# Altium footprint library SecurityLibrary.PcbLib: 34 footprints (part 2 of 3)
Each footprint in its own frame and in the unit in brackets; x right, y up, seen from the top. Pads: shape width x height; smd on the part's side, far side on the other; paste and mask are expansions set on the pad; w line width, h text height; cw(c..) or ccw(c..) is an arc to the next point about the centre after c.
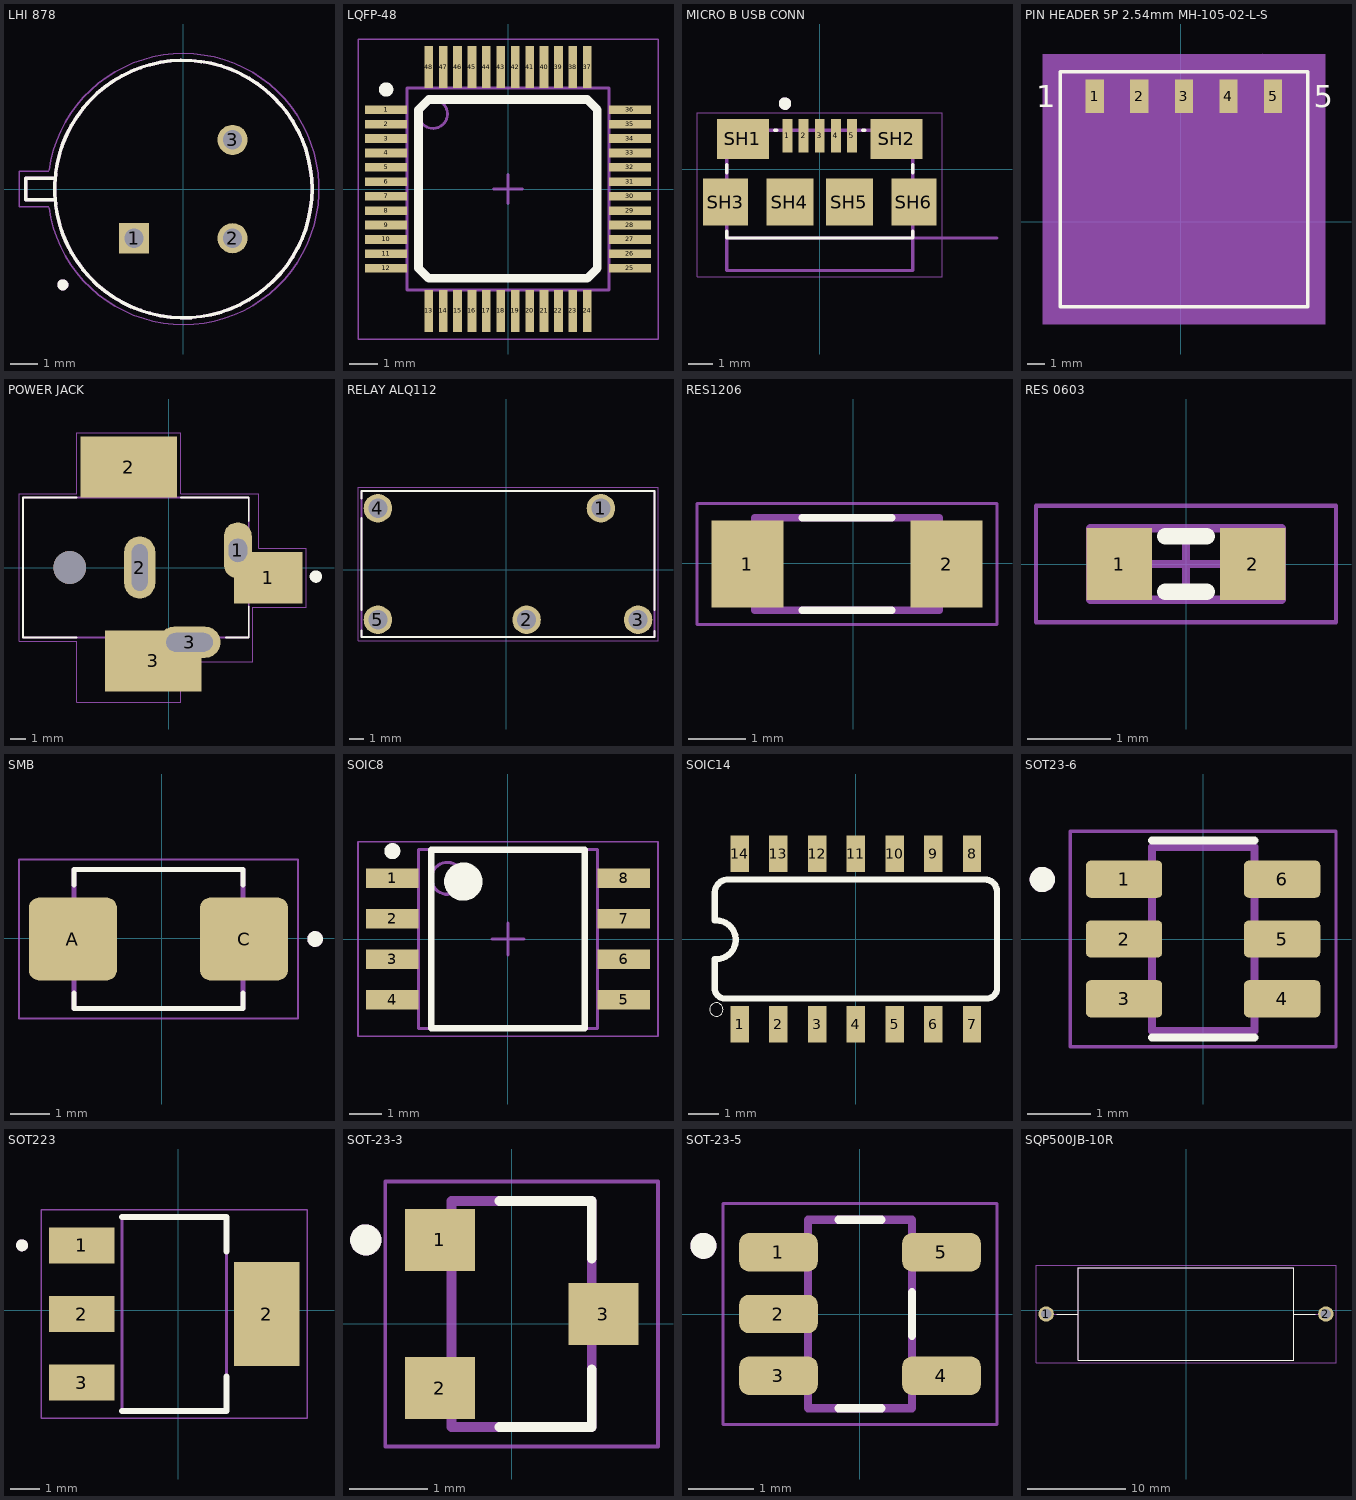
[diagram p1: the footprints below, top view; thin cyan lines are the x and y axes]

## LHI 878 [mm] "SENSOR PYRO DETECTOR DUAL MOTION"
pads (3):
  rect 1.1x1.1 hole 0.7: 1(-1.796,-1.796)
  round 1.1 hole 0.7: 2(1.796,-1.796) 3(1.796,1.796)
Top Overlay:
  circle w0.127: c0,0 r4.7
  circle w0.2: c-4.4,-3.5 r0.1
  lines w0.127: -4.693,-0.4 -5.75,-0.4 -5.75,0.4 -4.693,0.4
Top 3D Body (Mech13):
  circle w0.127: c0,0 r4.7
  circle w0.2: c-4.4,-3.5 r0.1
  lines w0.127: -4.693,-0.4 -5.75,-0.4 -5.75,0.4 -4.693,0.4
Mechanical 15:
  lines w0.05: -4.907,-0.65 -6,-0.65 -6,0.65 -4.907,0.65 ; -4.902,-0.688 ccw(c0.001,0.002) 0.001,-4.95 ; -4.902,0.688 cw(c0.001,-0.001) 0.001,4.95 ; 0,-4.95 ccw(c0,0) 0,4.95
3D body "IRA-S210ST01--3DModel-STEP-56544.STEP": height 4.9, standoff -15.5, extent -5.628,-4.501 4.612,4.699

## LQFP-48 [mm] "7mm X 7mm"
pads (48):
  rect 1.45x0.3 smd: 1(-4.225,2.75) 2(-4.225,2.25) 3(-4.225,1.75) 4(-4.225,1.25) 5(-4.225,0.75) 6(-4.225,0.25) 7(-4.225,-0.25) 8(-4.225,-0.75) 9(-4.225,-1.25) 10(-4.225,-1.75) 11(-4.225,-2.25) 12(-4.225,-2.75) 25(4.225,-2.75) 26(4.225,-2.25) 27(4.225,-1.75) 28(4.225,-1.25) 29(4.225,-0.75) 30(4.225,-0.25) 31(4.225,0.25) 32(4.225,0.75) 33(4.225,1.25) 34(4.225,1.75) 35(4.225,2.25) 36(4.225,2.75)
  rect 0.3x1.45 smd: 13(-2.75,-4.225) 14(-2.25,-4.225) 15(-1.75,-4.225) 16(-1.25,-4.225) 17(-0.75,-4.225) 18(-0.25,-4.225) 19(0.25,-4.225) 20(0.75,-4.225) 21(1.25,-4.225) 22(1.75,-4.225) 23(2.25,-4.225) 24(2.75,-4.225) 37(2.75,4.225) 38(2.25,4.225) 39(1.75,4.225) 40(1.25,4.225) 41(0.75,4.225) 42(0.25,4.225) 43(-0.25,4.225) 44(-0.75,4.225) 45(-1.25,4.225) 46(-1.75,4.225) 47(-2.25,4.225) 48(-2.75,4.225)
Top Overlay:
  circle w0.25: c-4.225,3.45 r0.125
  lines w0.3: -3.1,-2.75 -3.1,2.75 -2.75,3.1 2.75,3.1 3.1,2.75 3.1,-2.75 2.75,-3.1 -2.75,-3.1 -3.1,-2.75
Top 3D Body (Mech13):
  circle w0.1: c-2.6,2.6 r0.5
  lines w0.1: -3.5,-3.5 -3.5,3.5 3.5,3.5 3.5,-3.5 -3.5,-3.5
Mechanical 15:
  lines w0.05: -5.2,-5.2 -5.2,5.2 5.2,5.2 5.2,-5.2 -5.2,-5.2
  lines w0.1: -0.5,0 0.5,0 ; 0,-0.5 0,0.5
3D body "CQFP50P900X900X160-48N.step": height 1.55, standoff 0, extent -4.6,-4.6 4.6,4.6

## MICRO B USB CONN [mm]
pads (11):
  rect 0.4x1.35 smd: 1(-1.3,1.338) 2(-0.65,1.338) 3(0,1.338) 4(0.65,1.338) 5(1.3,1.338)
  rect 2.1x1.6 smd: SH1(-3.1,1.213) SH2(3.1,1.213)
  rect 1.8x1.9 smd: SH3(-3.8,-1.337) SH6(3.8,-1.337)
  rect 1.9x1.9 smd: SH4(-1.2,-1.337) SH5(1.2,-1.337)
Top Overlay:
  circle w0.3: c-1.4,2.638 r0.1
  lines w0.127: -3.75,-2.512 -3.75,-2.787 3.75,-2.787 3.75,-2.512 ; -3.75,-0.162 -3.75,0.188 ; -1.83,1.563 -1.72,1.563 ; 1.72,1.563 1.83,1.563 ; 3.75,-0.162 3.75,0.188
Top 3D Body (Mech13):
  circle w0.3: c-1.4,2.638 r0.1
  lines w0.127: 7.15,-2.787 3.75,-2.787 ; -3.75,-2.787 -3.75,-4.098 3.75,-4.098 3.75,-2.787 ; -3.75,-2.787 -3.75,1.563 3.75,1.563 3.75,-2.787 ; -3.75,-2.787 3.75,-2.787
  text "PCB Edge" at 5.205,-2.566 h0.81
Mechanical 15:
  lines w0.05: -4.95,-4.348 4.95,-4.348 4.95,2.263 -4.95,2.263 -4.95,-4.348
3D body "step_temp.STEP": height 2.5, standoff -0.29, extent -3.955,-4.059 3.955,1.608

## PIN HEADER 5P 2.54mm MH-105-02-L-S [mm]
pads (5):
  rect 1.04x1.91 smd mask+0: 1(-4.888,7.134) 2(-2.348,7.134) 3(0.192,7.134) 4(2.732,7.134) 5(5.272,7.134)
Top Overlay:
  lines w0.2: -6.862,-4.848 7.246,-4.848 7.246,8.54 -6.862,8.54 -6.862,-4.848
  text "5" at 7.587,6.499 h1.27
  text "1" at -8.232,6.499 h1.27
Top Paste:
  region: 5.792,6.179 4.752,6.179 4.752,8.089 5.792,8.089
  region: 3.252,6.179 2.212,6.179 2.212,8.089 3.252,8.089
  region: 0.712,6.179 -0.328,6.179 -0.328,8.089 0.712,8.089
  region: -1.828,6.179 -2.868,6.179 -2.868,8.089 -1.828,8.089
  region: -4.368,6.179 -5.408,6.179 -5.408,8.089 -4.368,8.089
Top Solder:
  region: 5.843,6.128 4.701,6.128 4.701,8.14 5.843,8.14
  region: 3.303,6.128 2.161,6.128 2.161,8.14 3.303,8.14
  region: 0.763,6.128 -0.379,6.128 -0.379,8.14 0.763,8.14
  region: -1.777,6.128 -2.919,6.128 -2.919,8.14 -1.777,8.14
  region: -4.317,6.128 -5.459,6.128 -5.459,8.14 -4.317,8.14
Top 3D Body (Mech13):
  lines w0: 4.637,9.477 4.7,9.557
  lines w0.1: -5.282,3.603 -5.282,7.541 -4.494,7.541 -4.494,3.603 ; -2.742,3.603 -2.742,7.541 -1.954,7.541 -1.954,3.603 ; -0.202,3.603 -0.202,7.541 0.586,7.541 0.586,3.603 ; 2.338,3.603 2.338,7.541 3.126,7.541 3.126,3.603 ; 4.878,3.603 4.878,7.541 5.666,7.541 5.666,3.603 ; -6.862,-4.848 7.246,-4.848 7.246,8.54 -6.862,8.54 -6.862,-4.848 ; -6.412,-4.397 -6.412,4.111 -5.84,4.111 -5.84,3.603 -3.936,3.603 -3.936,4.111 -3.618,4.111 -3.3,4.111 -3.3,3.603 -1.396,3.603 -1.396,4.111 -1.078,4.111 -0.76,4.111 -0.76,3.603 1.144,3.603 1.144,4.111 1.462,4.111 1.78,4.111 1.78,3.603 3.684,3.603 3.684,4.111 4.002,4.111 4.32,4.111 4.32,3.603 6.224,3.603 6.224,4.111 6.796,4.111 6.796,-4.397 4.002,-4.397 1.462,-4.397 -1.078,-4.397 -3.618,-4.397 -6.412,-4.397
  text "5" at 7.587,6.499 h1.27
  text "1" at -8.232,6.499 h1.27
Mechanical 15:
  region: 8.243,-5.845 -7.859,-5.845 -7.859,9.537 8.243,9.537
3D body "SMH-105-02-L-S.stp": height 2.41, standoff -0.01, extent -6.411,-4.092 6.797,7.846

## POWER JACK [mm]
pads (7):
  oval 1.8x3.6 hole 1.2 slot 1.5 at 90 deg: 1(4.425,1.1)
  rect 4.4x3.3 smd: 1(6.375,-0.65)
  rect 6.2x3.9 smd: 2(-2.575,6.45) 3(-1,-6)
  oval 2x4 hole 1 slot 3 at 90 deg: 2(-1.875,0)
  oval 4x2 hole 1.2 slot 3 at 0 deg: 3(1.325,-4.8)
  round 2.1 hole 2.1 unplated: ""(-6.375,0)
Top Overlay:
  circle w0.4: c9.435,-0.58 r0.2
  lines w0.127: -5.925,-4.5 -9.375,-4.5 -9.375,4.5 -5.925,4.5 ; 0.775,4.5 5.125,4.5 5.125,3 ; 3.675,-4.5 5.125,-4.5 5.125,-2.5
Top 3D Body (Mech13):
  lines w0.127: -9.375,-4.5 5.125,-4.5 5.125,4.5 -9.375,4.5 -9.375,-4.5
Mechanical 15:
  lines w0.05: -9.625,-4.75 -5.925,-4.75 -5.925,-8.65 0.775,-8.65 0.775,-6.05 5.375,-6.05 5.375,-2.55 8.825,-2.55 8.825,1.25 5.775,1.25 5.775,4.75 0.775,4.75 0.775,8.65 -5.925,8.65 -5.925,4.75 -9.625,4.75 -9.625,-4.75
3D body "CUI_DEVICES_PJ-002AH.step": height 11.5, standoff -2.99, extent -9.439,-4.891 4.961,4.509

## RELAY ALQ112 [mm] "RELAY GEN PURPOSE SPDT 10A 12V"
pads (5):
  round 1.95 hole 1.3: 1(6.477,4.191) 2(1.397,-3.429) 3(9.017,-3.429) 4(-8.763,4.191) 5(-8.763,-3.429)
Top Overlay:
  lines w0.127: -9.873,-4.173 -9.873,-4.619 10.127,-4.619 10.127,-4.2 ; -9.873,-2.765 -9.873,3.527 ; -9.873,4.835 -9.873,5.381 10.127,5.381 10.127,-2.765
Top 3D Body (Mech13):
  lines w0.127: -9.873,-4.619 10.127,-4.619 10.127,5.381 -9.873,5.381 -9.873,-4.619
Mechanical 15:
  lines w0.05: -10.123,-4.869 10.377,-4.869 10.377,5.631 -10.123,5.631 -10.123,-4.869
3D body "ALQ112--3DModel-STEP-56544.STEP": height 16, standoff -3.8, extent -9.746,-4.793 10.254,5.207

## RES1206 [mm]
pads (2):
  rect 1.25x1.5 smd: 1(-1.83,-0.012) 2(1.62,-0.012)
Top Overlay:
  lines w0.127: -0.885,-0.812 0.675,-0.812 ; -0.885,0.788 0.675,0.788
Top 3D Body (Mech13):
  lines w0.127: -1.705,-0.812 -1.705,0.788 1.495,0.788 1.495,-0.812 -1.705,-0.812
Mechanical 15:
  lines w0.05: -2.705,-1.062 -2.705,1.038 2.495,1.038 2.495,-1.062 -2.705,-1.062
3D body "step_temp.STEP": height 0.6, standoff 0, extent -1.705,-0.812 1.495,0.788

## RES 0603 [mm] "RES  0603"
pads (2):
  rect 0.787x0.864 smd: 1(-0.8,0) 2(0.8,0)
Top Overlay:
  lines w0.2: -0.25,-0.332 0.25,-0.332 ; -0.25,0.332 0.25,0.332
Top 3D Body (Mech13):
  lines w0.1: -1.15,-0.43 -1.15,0.43 1.15,0.43 1.15,-0.43 -1.15,-0.43
Mechanical 15:
  lines w0.05: -1.8,-0.7 -1.8,0.7 1.8,0.7 1.8,-0.7 -1.8,-0.7
  lines w0.1: -0.43,0 0.43,0 ; 0,-0.43 0,0.43
3D body "RES 0603.step": height 0.5, standoff 0, extent -1.15,-0.43 1.15,0.43

## SMB [mm]
pads (2):
  rrect25% 2.25x2.12 smd: A(-2.273,-0.017) C(2.097,-0.017)
Top Overlay:
  circle w0.2: c3.912,-0.017 r0.1
  lines w0.127: -2.248,-1.391 -2.248,-1.797 2.072,-1.797 2.072,-1.391 ; -2.248,1.357 -2.248,1.763 2.072,1.763 2.072,1.357
Top 3D Body (Mech13):
  circle w0.2: c3.912,-0.017 r0.1
  lines w0.127: -2.248,-1.797 -2.248,1.763 2.072,1.763 2.072,-1.797 -2.248,-1.797
Mechanical 15:
  lines w0.05: -3.648,-2.047 -3.648,2.013 3.472,2.013 3.472,-2.047 -3.648,-2.047
3D body "step_temp.STEP": height 2.49, standoff 0.02, extent -2.72,-2 2.72,1.56

## SOIC8 [mm] "SOIC, 8-Leads, Body 5,30x5,30mm, Pitch 1,27mm, IPC Medium Density"
height 2.2
pads (8):
  rect 1.65x0.6 smd: 1(-3.625,1.905) 2(-3.625,0.635) 3(-3.625,-0.635) 4(-3.625,-1.905) 5(3.625,-1.905) 6(3.625,-0.635) 7(3.625,0.635) 8(3.625,1.905)
Top Overlay:
  circle w0.6: c-1.4,1.8 r0.3
  circle w0.25: c-3.625,2.755 r0.125
  lines w0.2: -2.4,-2.8 2.4,-2.8 2.4,2.8 -2.4,2.8 -2.4,-2.8
Top 3D Body (Mech13):
  circle w0.1: c-1.9,1.9 r0.5
  lines w0.1: -2.8,-2.8 2.8,-2.8 2.8,2.8 -2.8,2.8 -2.8,-2.8
Mechanical 15:
  lines w0.05: -4.7,-3.05 4.7,-3.05 4.7,3.05 -4.7,3.05 -4.7,-3.05
  lines w0.1: -0.5,0 0.5,0 ; 0,-0.5 0,0.5
3D body "SOIC127P780X220-8N.step": height 2.2, standoff 0, extent -3.9,-2.8 3.9,2.8

## SOIC14 [mm]
pads (14):
  rect 0.6x1.2 smd: 1(-3.81,-2.8) 2(-2.54,-2.8) 3(-1.27,-2.8) 4(0,-2.8) 5(1.27,-2.8) 6(2.54,-2.8) 7(3.81,-2.8) 8(3.81,2.8) 9(2.54,2.8) 10(1.27,2.8) 11(0,2.8) 12(-1.27,2.8) 13(-2.54,2.8) 14(-3.81,2.8)
Top Overlay:
  circle w0: c-4.572,-2.311 r0.218
  lines w0.203: -4.622,-1.668 ccw(c-4.292,-1.615) -4.239,-1.946 ; -4.623,-1.665 -4.623,-0.66 ; -4.623,0.61 -4.623,1.453 ; -4.622,1.463 cw(c-4.192,1.515) -4.245,1.946 ; -4.572,-0.66 ccw(c-4.572,-0.025) -4.572,0.61 ; -4.242,-1.946 4.342,-1.946 ; -4.242,1.946 4.242,1.946 cw(c4.242,1.565) 4.623,1.565 4.623,-1.565 ; 4.344,-1.946 ccw(c4.292,-1.615) 4.622,-1.563
Top 3D Body (Mech13):
  region: -3.556,-3.302 -4.064,-3.302 -4.064,-2.273 -3.556,-2.273
  region: -2.286,-3.302 -2.794,-3.302 -2.794,-2.273 -2.286,-2.273
  region: -1.016,-3.302 -1.524,-3.302 -1.524,-2.273 -1.016,-2.273
  region: 0.254,-3.302 -0.254,-3.302 -0.254,-2.273 0.254,-2.273
  region: 1.524,-3.302 1.016,-3.302 1.016,-2.273 1.524,-2.273
  region: 2.794,-3.302 2.286,-3.302 2.286,-2.273 2.794,-2.273
  region: 4.064,-3.302 3.556,-3.302 3.556,-2.273 4.064,-2.273
  region: -3.556,2.286 -4.064,2.286 -4.064,3.366 -3.556,3.366
  region: -2.286,2.286 -2.794,2.286 -2.794,3.302 -2.286,3.302
  region: -1.016,2.286 -1.524,2.286 -1.524,3.302 -1.016,3.302
  region: 0.254,2.286 -0.254,2.286 -0.254,3.302 0.254,3.302
  region: 1.524,2.286 1.016,2.286 1.016,3.302 1.524,3.302
  region: 2.794,2.286 2.286,2.286 2.286,3.302 2.794,3.302
  region: 4.064,2.286 3.556,2.286 3.556,3.302 4.064,3.302
3D body "step_temp.STEP": height 1.83, standoff 0.03, extent -4.28,-3 4.28,3

## SOT23-6 [mm]
pads (6):
  rrect25% 1.21x0.59 smd: 1(-1.255,0.95) 2(-1.255,0) 3(-1.255,-0.95) 4(1.255,-0.95) 5(1.255,0) 6(1.255,0.95)
Top Overlay:
  circle w0.2: c-2.555,0.945 r0.1
  lines w0.127: -0.813,-1.565 0.813,-1.565 ; -0.813,1.565 0.813,1.565
Top 3D Body (Mech13):
  circle w0.2: c-2.555,0.945 r0.1
  lines w0.127: -0.813,-1.462 0.813,-1.462 0.813,1.463 -0.813,1.463 -0.813,-1.462
Mechanical 15:
  lines w0.05: -2.11,-1.712 -2.11,1.713 2.11,1.713 2.11,-1.712 -2.11,-1.712
3D body "step_temp.STEP": height 1.4, standoff -0.05, extent -1.4,-1.462 1.4,1.462

## SOT223 [mm] "AP7361"
pads (4):
  rect 2.2x1.2 smd: 1(-3.227,2.173) 2(-3.227,-0.127) 3(-3.227,-2.427)
  rect 2.2x3.5 smd: 2(2.973,-0.127)
Top Overlay:
  circle w0.2: c-5.227,2.173 r0.1
  lines w0.2: -1.877,-3.377 1.623,-3.377 1.623,-2.227 ; -1.877,3.123 1.623,3.123 1.623,1.973
Top 3D Body (Mech13):
  circle w0.2: c-5.227,2.173 r0.1
  lines w0.1: -1.877,-3.377 1.623,-3.377 1.623,3.123 -1.877,3.123 -1.877,-3.377
Mechanical 15:
  lines w0.05: -4.577,-3.627 -4.577,3.373 4.323,3.373 4.323,-3.627 -4.577,-3.627
3D body "step_temp.STEP": height 1.65, standoff 0, extent -3.627,-3.377 3.373,3.123

## SOT-23-3 [mm] "SSM3K357R"
pads (3):
  rect 0.9x0.8 smd: 1(-0.923,1.077) 2(-0.923,-0.823) 3(1.177,0.127)
Top Overlay:
  circle w0.2: c-1.873,1.077 r0.1
  lines w0.127: -0.159,-1.323 1.027,-1.323 1.027,-0.587 ; -0.159,1.577 1.027,1.577 1.027,0.841
Top 3D Body (Mech13):
  circle w0.2: c-1.873,1.077 r0.1
  lines w0.127: -0.773,-1.323 -0.773,1.577 1.027,1.577 1.027,-1.323 -0.773,-1.323
Mechanical 15:
  lines w0.05: -1.623,-1.573 -1.623,1.827 1.877,1.827 1.877,-1.573 -1.623,-1.573
3D body "SSM3K357R,LF.STEP": height 0.88, standoff 0, extent -1.19,-1.299 1.21,1.601

## SOT-23-5 [mm]
pads (5):
  rrect50% 1.21x0.59 smd: 1(-1.255,0.95) 2(-1.255,0) 3(-1.255,-0.95) 4(1.255,-0.95) 5(1.255,0.95)
Top Overlay:
  circle w0.2: c-2.41,1.05 r0.1
  lines w0.127: -0.33,-1.45 0.33,-1.45 ; -0.33,1.45 0.33,1.45 ; 0.8,-0.335 0.8,0.335
Top 3D Body (Mech13):
  circle w0.2: c-2.41,1.05 r0.1
  lines w0.127: -0.8,-1.45 0.8,-1.45 0.8,1.45 -0.8,1.45 -0.8,-1.45
Mechanical 15:
  lines w0.05: -2.11,-1.7 -2.11,1.7 2.11,1.7 2.11,-1.7 -2.11,-1.7
3D body "step_temp.STEP": height 1.41, standoff -0.04, extent -1.4,-1.45 1.4,1.45

## SQP500JB-10R [mm] "RES 10 OHM 5% 5W AXIAL"
pads (2):
  round 1.575 hole 1.05: 1(-14.343,-0.365) 2(14.257,-0.365)
Top Overlay:
  lines w0.127: -13.236,-0.365 -11.043,-0.365 ; 13.15,-0.365 10.957,-0.365 ; -11.043,-0.365 -11.043,-5.115 10.957,-5.115 10.957,-0.365 ; -11.043,-0.365 -11.043,4.385 10.957,4.385 10.957,-0.365
Top 3D Body (Mech13):
  lines w0.127: -14.343,-0.365 -11.043,-0.365 ; 14.257,-0.365 10.957,-0.365 ; -11.043,-0.365 -11.043,-5.115 10.957,-5.115 10.957,-0.365 ; -11.043,-0.365 -11.043,4.385 10.957,4.385 10.957,-0.365
Mechanical 15:
  lines w0.05: -15.381,-5.365 -15.381,4.635 15.295,4.635 15.295,-5.365 -15.381,-5.365
3D body "step_temp.STEP": height 10, standoff -27.22, extent -14.743,-5.115 14.657,4.385